# Altium schematic symbol library IC - Power.SchLib: 2 symbols
Pins are listed as number, name and electrical type; pins without a type are passive.

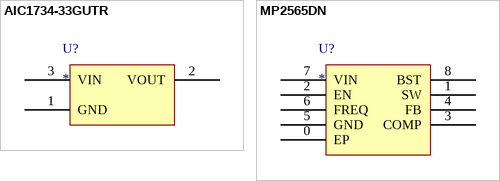
[diagram p0: symbols AIC1734-33GUTR to MP2565DN]

## AIC1734-33GUTR
designator U?
AIC,LDO,Vout 3V,3300mA Low Dropout,Vin(max) 12V.
footprint SOT-23-3
pins: 1 GND, 2 VOUT, 3 VIN

## MP2565DN
designator U?
footprint SOIC-8_EP
pins: 0 EP, 1 SW, 2 EN, 3 COMP, 4 FB, 5 GND, 6 FREQ, 7 VIN, 8 BST